# Altium footprint library CAP_CAN_TH_2p5mmLS6p3mmD.PcbLib: 1 footprints
Each footprint in its own frame and in the unit in brackets; x right, y up, seen from the top. Pads: shape width x height; smd on the part's side, far side on the other; paste and mask are expansions set on the pad; w line width, h text height; cw(c..) or ccw(c..) is an arc to the next point about the centre after c.
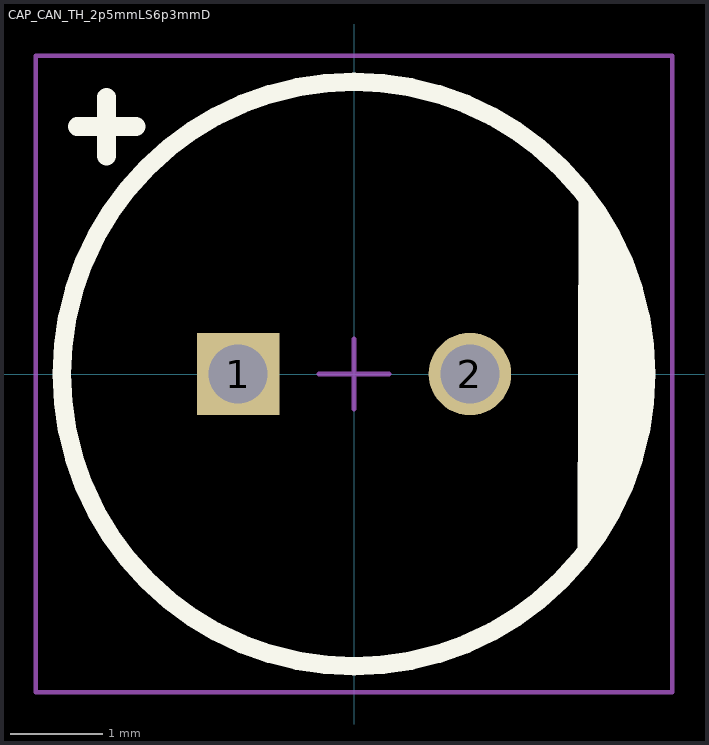
[diagram p0: the footprint, top view; thin cyan lines are the x and y axes]

## CAP_CAN_TH_2p5mmLS6p3mmD [mil]
pads (2):
  rect 35x35 hole 25: 1(-49.21,0)
  round 35 hole 25: 2(49.21,0)
Top Overlay:
  circle w7.87: c0,0 r124.02
  region: 95.34,75.34 107.72,60.25 116.92,43.04 122.58,24.37 124.5,4.95 124.02,4.95 124.5,-4.95 122.58,-24.37 116.92,-43.04 107.72,-60.25 95.34,-75.34 95,-75
  lines w7.87: -117.5,105 -92.5,105 ; -105,92.5 -105,117.5
Mechanical 15:
  lines w1.97: -15,0 15,0 ; 0,-15 0,15 ; -135,-135 135,-135 135,135 -135,135 -135,-135